# EAGLE library part TMP1075 (library bschulz)
TMP1075 - Digital I2C Temperature Sensor Characteristics: Vcc: 1.7V ~ 5.5V IQ: 10μA (typ) 0.37μA (shutdown) Resolution: 0.0625°C Accuracy: 1°C Operating Temperature: -40°C to 125°C Digikey: 296-TMP1075DGKRCT-ND (DGK) <https://www.digikey.com/product-detail/en/texas-instruments/TMP1075DGKR/296-TMP1075DGKRCT-ND/10816963> 296-TMP1075DSGRCT-ND (DSG) <https://www.digikey.com/product-detail/en/texas-instruments/TMP1075DSGR/296-TMP1075DSGRCT-ND/10716115>
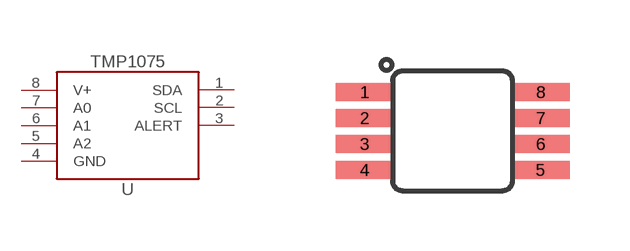
[diagram p122: symbol with the pads of DGK_S-PDSO-G8; footprint DGK_S-PDSO-G8]

Designator prefix U

## TMP1075VSSOP (DIGIKEY: 296-TMP1075DGKRCT-ND; MF: TI; MPN: TMP1075DGKR)  [DGK_S-PDSO-G8]
1  SDA
2  SCL  in
3  ALERT  oc
4  GND  pwr
5  A2  in
6  A1  in
7  A0  in
8  V+  pwr

## Footprint DGK_S-PDSO-G8 (pad centres in mm)
smd 1.45 x 0.45: 1 -2.2,0.975; 2 -2.2,0.325; 3 -2.2,-0.325; 4 -2.2,-0.975; 5 2.2,-0.975; 6 2.2,-0.325; 7 2.2,0.325; 8 2.2,0.975